# EAGLE library part DA03S (library switch-dil)
DIL/CODE SWITCH
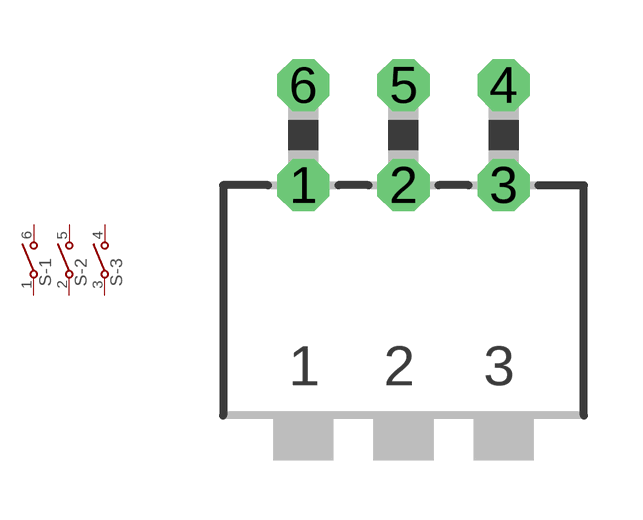
[diagram p81: symbol with the pads of DA-03; footprint DA-03]

Designator prefix S; gates -1=S -2=S -3=S

## DA03S  [DA-03]
1  -1:1  pas
2  -2:1  pas
3  -3:1  pas
4  -3:2  pas
5  -2:2  pas
6  -1:2  pas

## Footprint DA-03 (pad centres in mm)
DIL/CODE SWITCH Mors
drill 0.813 octagon: 1 -2.54,-1.27; 2 0,-1.27; 3 2.54,-1.27; 4 2.54,1.27; 5 0,1.27; 6 -2.54,1.27